# EAGLE library part HDSP4701 (library EW_LCD_display)
LED DISPLAY 1-character dot matrix without decimal point
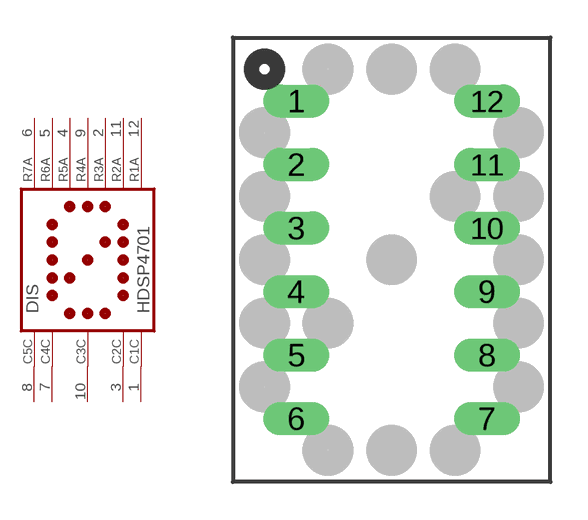
[diagram p38: symbol with the pads of HDSP47; footprint HDSP47]

Designator prefix DIS

## HDSP4701 (OC_FARNELL: unknown; OC_NEWARK: unknown)  [HDSP47]
1  C1C  pas
2  R3A  pas
3  C2C  pas
4  R5A  pas
5  R6A  pas
6  R7A  pas
7  C4C  pas
8  C5C  pas
9  R4A  pas
10  C3C  pas
11  R2A  pas
12  R1A  pas

## Footprint HDSP47 (pad centres in mm)
LED DISPLAY 17-mm 1 character dot matrix without decimal point
drill 0.813 long: 1 -3.81,6.35; 2 -3.81,3.81; 3 -3.81,1.27; 4 -3.81,-1.27; 5 -3.81,-3.81; 6 -3.81,-6.35; 7 3.81,-6.35; 8 3.81,-3.81; 9 3.81,-1.27; 10 3.81,1.27; 11 3.81,3.81; 12 3.81,6.35